# EAGLE library part 8D- (library Chips)
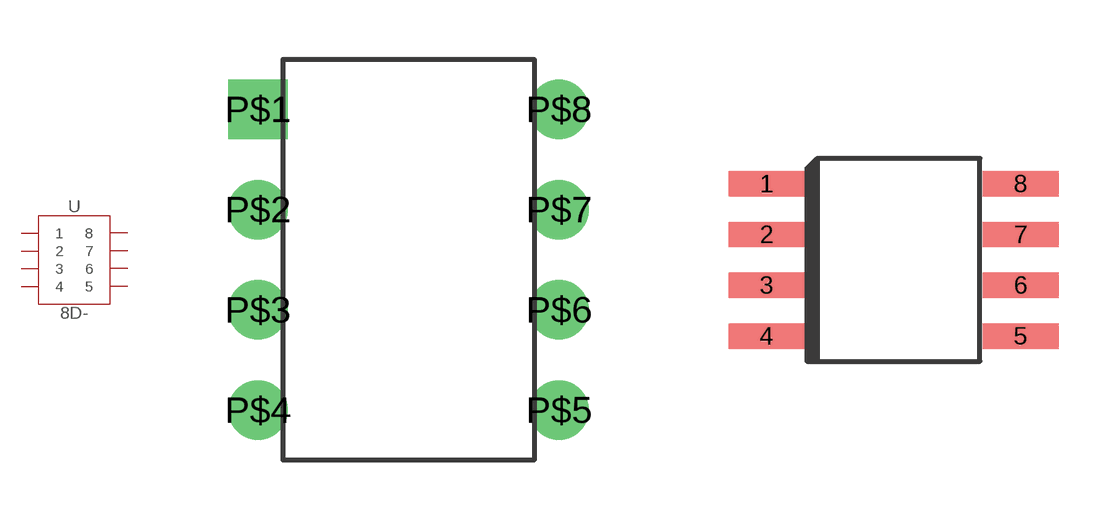
[diagram p1: symbol with the pads of 8DIP; footprints 8DIP, 8SOP_4.4MM]

Designator prefix U

## 8D-DIP  [8DIP]
P$1  1
P$2  2
P$3  3
P$4  4
P$5  5
P$6  6
P$7  7
P$8  8

## 8D-SO_4.4  [8SOP_4.4MM]
1  1
2  2
3  3
4  4
5  5
6  6
7  7
8  8

## 8D-SO_5.6  [8SOP_5.6MM]
Pads as for 8SOP_4.4MM

## 8D-SO_6.8  [8SOP_6.8MM]
Pads as for 8SOP_4.4MM

## 8D-SSOP_4.4  [8SSOP_4.4MM]
Pads as for 8DIP

## 8D-SSOP_5.6  [8SSOP_5.6MM]
Pads as for 8DIP

## 8D-8SM  [8SM]
Pads as for 8SOP_4.4MM

## Footprint 8DIP (pad centres in mm)
drill 1 square: P$1 -3.81,3.81
drill 1: P$2 -3.81,1.27; P$3 -3.81,-1.27; P$4 -3.81,-3.81; P$5 3.81,-3.81; P$6 3.81,-1.27; P$7 3.81,1.27; P$8 3.81,3.81

## Footprint 8SOP_4.4MM (pad centres in mm)
smd 1.905 x 0.635: 1 -3.175,1.905; 2 -3.175,0.635; 3 -3.175,-0.635; 4 -3.175,-1.905; 5 3.175,-1.905; 6 3.175,-0.635; 7 3.175,0.635; 8 3.175,1.905

## Footprint 8SOP_5.6MM (pad centres in mm)
smd 1.905 x 0.635: 1 -3.81,1.905; 2 -3.81,0.635; 3 -3.81,-0.635; 4 -3.81,-1.905; 5 3.81,-1.905; 6 3.81,-0.635; 7 3.81,0.635; 8 3.81,1.905

## Footprint 8SOP_6.8MM (pad centres in mm)
smd 1.905 x 0.635: 1 -4.445,1.905; 2 -4.445,0.635; 3 -4.445,-0.635; 4 -4.445,-1.905; 5 4.445,-1.905; 6 4.445,-0.635; 7 4.445,0.635; 8 4.445,1.905

## Footprint 8SSOP_4.4MM (pad centres in mm)
smd 1.27 x 0.406: P$1 -3.175,0.953; P$2 -3.175,0.318; P$3 -3.175,-0.318; P$4 -3.175,-0.953; P$5 3.175,-0.953; P$6 3.175,-0.318; P$7 3.175,0.318; P$8 3.175,0.953

## Footprint 8SSOP_5.6MM (pad centres in mm)
smd 1.27 x 0.406: P$1 -3.81,0.953; P$2 -3.81,0.318; P$3 -3.81,-0.318; P$4 -3.81,-0.953; P$5 3.81,-0.953; P$6 3.81,-0.318; P$7 3.81,0.318; P$8 3.81,0.953

## Footprint 8SM (pad centres in mm)
smd 1.54 x 1.78: 1 -4.445,3.81; 2 -4.445,1.27; 3 -4.445,-1.27; 4 -4.445,-3.81; 5 4.445,-3.81; 6 4.445,-1.27; 7 4.445,1.27; 8 4.445,3.81